# Altium integrated library transistor.IntLib: 40 symbols
Pins are listed as number, name and electrical type; pins without a type are passive.

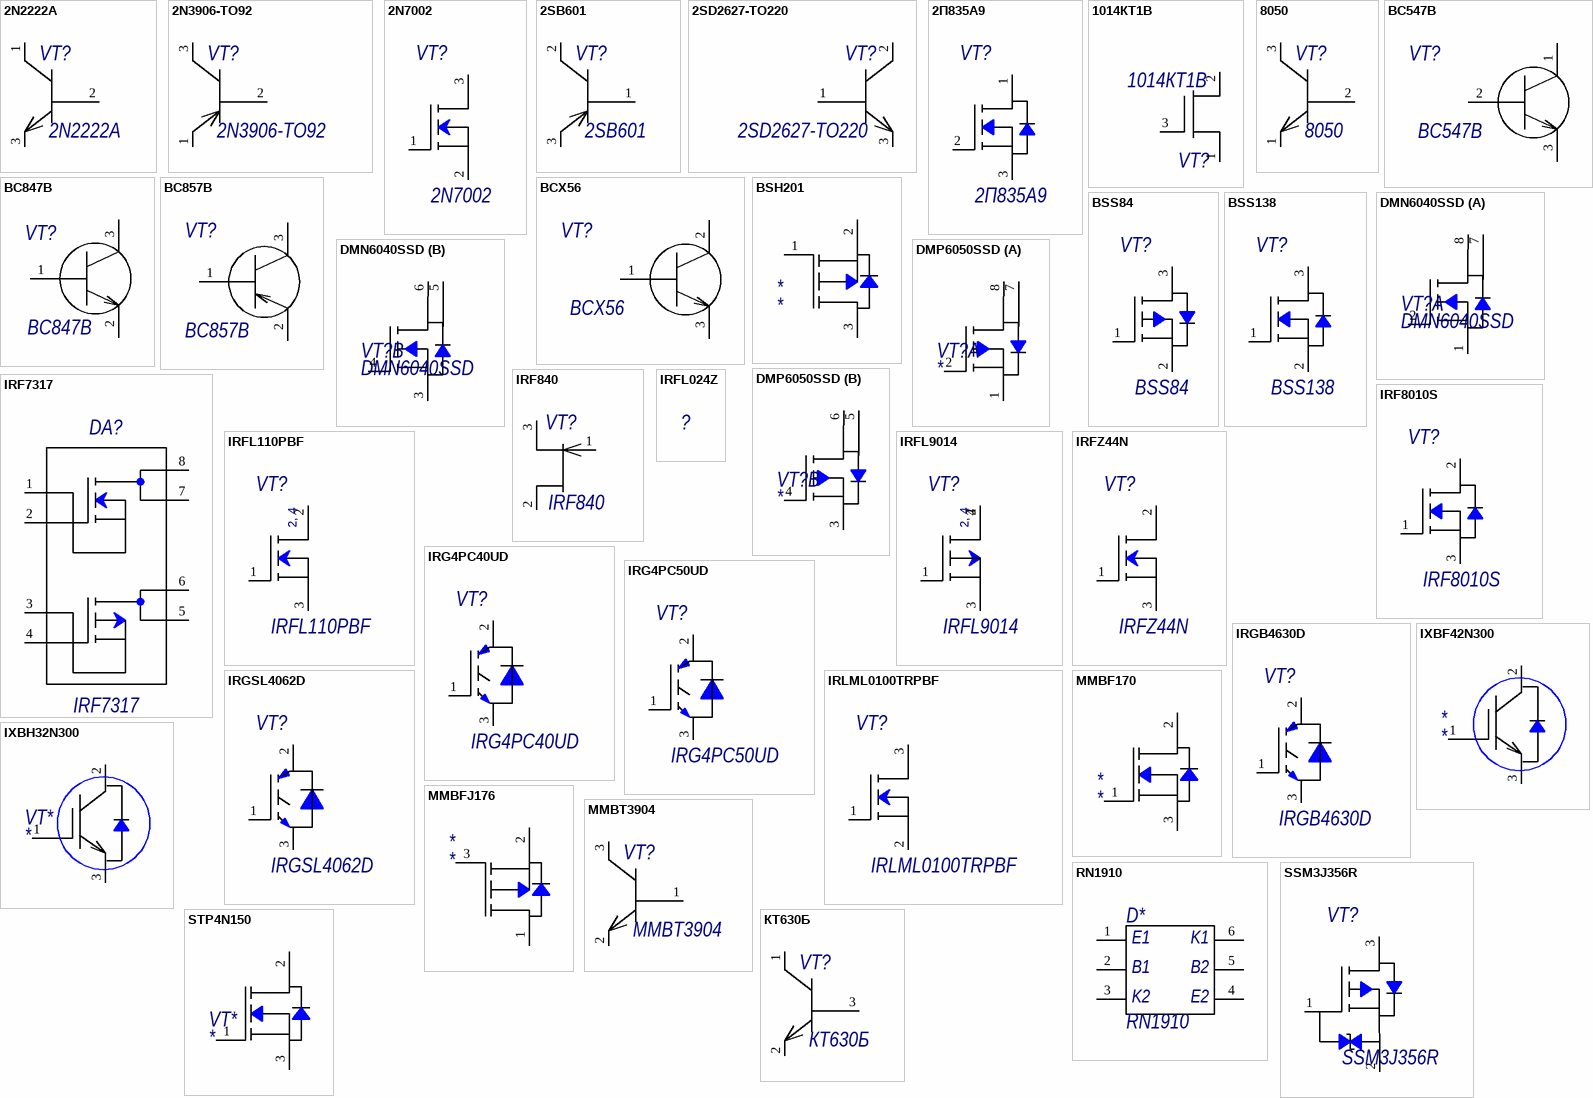
[diagram p0: symbols 2N2222A to КТ630Б]

## 2N2222A
designator VT?
Value: *
footprint TO-92A
pins: 1 C, 2 B, 3 E

## 2N3906-TO92
designator VT?
Value: *
footprint TO-92A
pins: 1 C, 2 B, 3 E

## 2N7002
designator VT?
Value: *
footprint SOT-23
pins: 1 G, 2 S, 3 D

## 2SB601
designator VT?
Value: *
footprint TO-220
pins: 1 B, 2 C, 3 E

## 2SD2627-TO220
designator VT?
Value: *
footprint TO-220
pins: 1 B, 2 C, 3 E

## 2П835А9
designator VT?
Value: *
footprint KT-95
pins: 1 D, 2 G, 3 S

## 1014КТ1В
designator VT?
Value: *
footprint TO-92A
pins: 1 G, 2 D, 3 S

## 8050
designator VT?
Value: *
footprint TO-92A
pins: 1, 2, 3

## BC547B
designator VT?
Value: *
footprint TO-92A
pins: 1 C, 2 B, 3 E

## BC847B
designator VT?
Value: *
footprint SOT-23_BC847B(Primary)
pins: 1 B, 2 E, 3 C

## BC857B
designator VT?
Value: *
footprint SOT-23
pins: 1 B, 2 E, 3 C

## BCX56
designator VT?
Value: *
footprint SOT-89_BCX56(Primary)
pins: 1 B, 2 C, 3 E, 4 hidden

## BSH201
designator *
footprint SOT-23
pins: 1 G, 2 S, 3 D

## BSS84
designator VT?
Value: *
footprint SOT-23
pins: 1 gate, 2 source, 3 drain

## BSS138
designator VT?
Value: *
footprint SOT-23
pins: 1 G, 2 S, 3 D

## DMN6040SSD
designator VT?
Datasheet: https://www.diodes.com/assets/Datasheets/DMN6040SSD.pdf
footprint SO-8
part A pins: 1 S, 2 G, 7 D, 8 D
part B pins: 3 S, 4 G, 5 D, 6 D

## DMP6050SSD
designator VT?
footprint SO-8
part A pins: 1 S, 2 G, 7 D, 8 D
part B pins: 3 S, 4 G, 5 D, 6 D

## IRF840
designator VT?
Value: *
footprint TO-220
pins: 1 G, 2 S, 3 D

## IRF7317
designator DA?
Value: *
footprint SO-8
pins: 1 S1, 2 G1, 3 S2, 4 G2, 5 D2, 6 D2, 7 D1, 8 D1

## IRF8010S
designator VT?
Value: *
footprint D2PAK
pins: 1 G, 2 D, 3 S

## IRFL024Z
designator ?  (value not drawn)
Value: *
footprint SOT-223

## IRFL110PBF
designator VT?
Value: *
footprint SOT-223
pins: 1 G, 2 D, 3 S, 4 hidden
text: 2, 4

## IRFL9014
designator VT?
Value: *
footprint SOT-223
pins: 1 G, 2 D, 3 S, 4 D
text: 2, 4

## IRFZ44N
designator VT?
Value: *
footprint TO-220_F_PANEL_MOUNT
pins: 1 G, 2 D, 3 S

## IRG4PC40UD
designator VT?
Value: *
footprint TO-247AC
pins: 1 G, 2 C, 3 E

## IRG4PC50UD
designator VT?
Value: *
footprint TO-247AC
pins: 1 G, 2 C, 3 E

## IRGB4630D
designator VT?
Value: *
footprint TO-220
pins: 1 G, 2 C, 3 E

## IRGSL4062D
designator VT?
Value: *
footprint IRGSL4062D_TO-262
pins: 1 G, 2 C, 3 E

## IRLML0100TRPBF
designator VT?
Value: *
footprint SOT-23
pins: 1 G, 2 S, 3 D

## IXBF42N300
designator *
footprint Isoplus i4-pac
pins: 1 G, 2 C, 3 E

## IXBH32N300
designator VT*
footprint TO-247AC
pins: 1 G, 2 C, 3 E

## MMBF170
designator *
footprint SOT-23
pins: 1 G, 2 D, 3 S

## MMBFJ176
designator *
footprint SOT-23
pins: 1 D, 2 S, 3 G

## MMBT3904
designator VT?
Value: *
footprint SOT-23
pins: 1 B, 2 E, 3 C

## RN1910
designator D*
Transistor array
footprint SOT-363
footprint SOT-563
pins: 1 E1, 2 B1, 3 K2, 4 E2, 5 B2, 6 K1

## SSM3J356R
designator VT?
Datasheet: file:///C:/Users/a.sergeev/Downloads/SSM3J356R_datasheet_en_20160518.pdf
footprint SOT-23
pins: 1 gate, 2 source, 3 drain

## STP4N150
designator VT*
footprint TO-220
pins: 1 G, 2 D, 3 S

## КТ630Б
designator VT?
Value: *
footprint TO-18
pins: 1 C, 2 B, 3 E

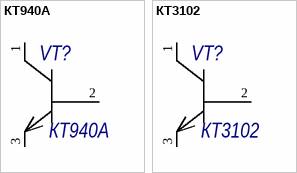
[diagram p1: symbols КТ940А to КТ3102]

## КТ940А
designator VT?
Value: *
footprint TO-218_КТ940А(Primary)
pins: 1 C, 2 B, 3 E

## КТ3102
designator VT?
Value: *
footprint TO-92A
pins: 1 C, 2 B, 3 E